# Altium integrated library SPST.IntLib: 2 symbols
Pins are listed as number, name and electrical type; pins without a type are passive.

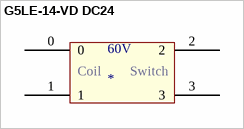
[diagram p0: symbol G5LE-14-VD DC24]

## G5LE-14-VD DC24
designator 60V
footprint G5LE-14-VD DC24; pin to pad 0>1 1>2 2>0
pins: 0, 1, 2, 3
text: Coil; Switch


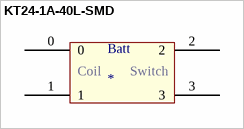
[diagram p1: symbol KT24-1A-40L-SMD]

## KT24-1A-40L-SMD
designator Batt
footprint KT24-1A-40L-SMD
pins: 0, 1, 2, 3
text: Coil; Switch